# Altium integrated library ind-WE-LHMI (rev21a).IntLib: 164 symbols (part 3 of 3)
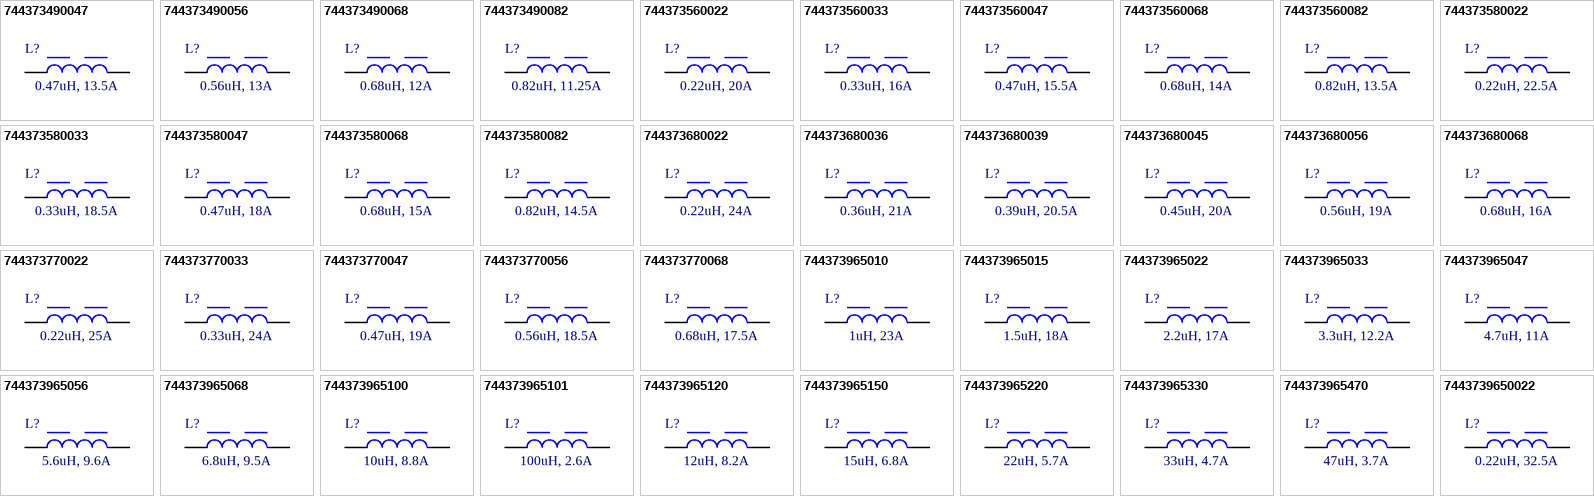
[diagram p6: symbols 744373490047 to 7443739650022]

## 744373580068
designator L?, comment 0.68uH, 15A
WE-LHMI SMT Power Inductor, size 8040, 0.68uH, 15A; Manufacturer: Wurth Elektronik; Manufacturer Part Number: 744373580068; Self Resonant Frequency: 45MHz; DC Resistance typ.: 2.75mOhm; DC Resistance max.: 3.22mOhm; Saturation Current @10%: 17.5A; Saturation Current @30%: 37.8A; ComponentLink1Description: Manufacturer; ComponentLink1URL: http://www.we-online.de; ComponentLink2Description: Datasheet; ComponentLink2URL: https://www.we-online.com/catalog/datasheet/744373580068.pdf; Mounting Technology: SMT; Operating Temperature: -40 to +125degC; Packaging: Tape and Reel; Inductance: 0.68uH; Rated Current: 15A; Size: 8040; Height: 4mm; Length: 9.2mm; Width: 8.5mm
footprint WE-LHMI_8040
pins: 1, 2

## 744373580082
designator L?, comment 0.82uH, 14.5A
WE-LHMI SMT Power Inductor, size 8040, 0.82uH, 14.5A; Manufacturer: Wurth Elektronik; Manufacturer Part Number: 744373580082; Self Resonant Frequency: 51MHz; DC Resistance typ.: 2.95mOhm; DC Resistance max.: 3.88mOhm; Saturation Current @10%: 19.7A; Saturation Current @30%: 41.6A; ComponentLink1Description: Manufacturer; ComponentLink1URL: http://www.we-online.de; ComponentLink2Description: Datasheet; ComponentLink2URL: https://www.we-online.com/catalog/datasheet/744373580082.pdf; Mounting Technology: SMT; Operating Temperature: -40 to +125degC; Packaging: Tape and Reel; Inductance: 0.82uH; Rated Current: 14.5A; Size: 8040; Height: 4mm; Length: 9.2mm; Width: 8.5mm
footprint WE-LHMI_8040
pins: 1, 2

## 744373680022
designator L?, comment 0.22uH, 24A
WE-LHMI SMT Power Inductor, size 1040, 0.22uH, 24A; Manufacturer: Wurth Elektronik; Manufacturer Part Number: 744373680022; Self Resonant Frequency: 153MHz; DC Resistance typ.: 0.8mOhm; DC Resistance max.: 1mOhm; Saturation Current @10%: 46A; Saturation Current @30%: 94.2A; ComponentLink1Description: Manufacturer; ComponentLink1URL: http://www.we-online.de; ComponentLink2Description: Datasheet; ComponentLink2URL: https://www.we-online.com/catalog/datasheet/744373680022.pdf; Mounting Technology: SMT; Operating Temperature: -40 to +125degC; Packaging: Tape and Reel; Inductance: 0.22uH; Rated Current: 24A; Size: 1040; Height: 3.8mm; Length: 10mm; Width: 10mm
footprint WE-LHMI_1040
pins: 1, 2

## 744373680036
designator L?, comment 0.36uH, 21A
WE-LHMI SMT Power Inductor, size 1040, 0.36uH, 21A; Manufacturer: Wurth Elektronik; Manufacturer Part Number: 744373680036; Self Resonant Frequency: 104MHz; DC Resistance typ.: 1.05mOhm; DC Resistance max.: 1.2mOhm; Saturation Current @10%: 44.5A; Saturation Current @30%: 79.4A; ComponentLink1Description: Manufacturer; ComponentLink1URL: http://www.we-online.de; ComponentLink2Description: Datasheet; ComponentLink2URL: https://www.we-online.com/catalog/datasheet/744373680036.pdf; Mounting Technology: SMT; Operating Temperature: -40 to +125degC; Packaging: Tape and Reel; Inductance: 0.36uH; Rated Current: 21A; Size: 1040; Height: 3.8mm; Length: 10mm; Width: 10mm
footprint WE-LHMI_1040
pins: 1, 2

## 744373680039
designator L?, comment 0.39uH, 20.5A
WE-LHMI SMT Power Inductor, size 1040, 0.39uH, 20.5A; Manufacturer: Wurth Elektronik; Manufacturer Part Number: 744373680039; Self Resonant Frequency: 101MHz; DC Resistance typ.: 1.1mOhm; DC Resistance max.: 1.3mOhm; Saturation Current @10%: 43A; Saturation Current @30%: 77.5A; ComponentLink1Description: Manufacturer; ComponentLink1URL: http://www.we-online.de; ComponentLink2Description: Datasheet; ComponentLink2URL: https://www.we-online.com/catalog/datasheet/744373680039.pdf; Mounting Technology: SMT; Operating Temperature: -40 to +125degC; Packaging: Tape and Reel; Inductance: 0.39uH; Rated Current: 20.5A; Size: 1040; Height: 3.8mm; Length: 10mm; Width: 10mm
footprint WE-LHMI_1040
pins: 1, 2

## 744373680045
designator L?, comment 0.45uH, 20A
WE-LHMI SMT Power Inductor, size 1040, 0.45uH, 20A; Manufacturer: Wurth Elektronik; Manufacturer Part Number: 744373680045; Self Resonant Frequency: 82MHz; DC Resistance typ.: 1.3mOhm; DC Resistance max.: 1.5mOhm; Saturation Current @10%: 34.9A; Saturation Current @30%: 64.5A; ComponentLink1Description: Manufacturer; ComponentLink1URL: http://www.we-online.de; ComponentLink2Description: Datasheet; ComponentLink2URL: https://www.we-online.com/catalog/datasheet/744373680045.pdf; Mounting Technology: SMT; Operating Temperature: -40 to +125degC; Packaging: Tape and Reel; Inductance: 0.45uH; Rated Current: 20A; Size: 1040; Height: 3.8mm; Length: 10mm; Width: 10mm
footprint WE-LHMI_1040
pins: 1, 2

## 744373680056
designator L?, comment 0.56uH, 19A
WE-LHMI SMT Power Inductor, size 1040, 0.56uH, 19A; Manufacturer: Wurth Elektronik; Manufacturer Part Number: 744373680056; Self Resonant Frequency: 70MHz; DC Resistance typ.: 1.6mOhm; DC Resistance max.: 1.8mOhm; Saturation Current @10%: 31.7A; Saturation Current @30%: 60.9A; ComponentLink1Description: Manufacturer; ComponentLink1URL: http://www.we-online.de; ComponentLink2Description: Datasheet; ComponentLink2URL: https://www.we-online.com/catalog/datasheet/744373680056.pdf; Mounting Technology: SMT; Operating Temperature: -40 to +125degC; Packaging: Tape and Reel; Inductance: 0.56uH; Rated Current: 19A; Size: 1040; Height: 3.8mm; Length: 10mm; Width: 10mm
footprint WE-LHMI_1040
pins: 1, 2

## 744373680068
designator L?, comment 0.68uH, 16A
WE-LHMI SMT Power Inductor, size 1040, 0.68uH, 16A; Manufacturer: Wurth Elektronik; Manufacturer Part Number: 744373680068; Self Resonant Frequency: 53MHz; DC Resistance typ.: 2.4mOhm; DC Resistance max.: 2.7mOhm; Saturation Current @10%: 30.6A; Saturation Current @30%: 58.3A; ComponentLink1Description: Manufacturer; ComponentLink1URL: http://www.we-online.de; ComponentLink2Description: Datasheet; ComponentLink2URL: https://www.we-online.com/catalog/datasheet/744373680068.pdf; Mounting Technology: SMT; Operating Temperature: -40 to +125degC; Packaging: Tape and Reel; Inductance: 0.68uH; Rated Current: 16A; Size: 1040; Height: 3.8mm; Length: 10mm; Width: 10mm
footprint WE-LHMI_1040
pins: 1, 2

## 744373770022
designator L?, comment 0.22uH, 25A
WE-LHMI SMT Power Inductor, size 1335, 0.22uH, 25A; Manufacturer: Wurth Elektronik; Manufacturer Part Number: 744373770022; Self Resonant Frequency: 130MHz; DC Resistance typ.: 0.75mOhm; DC Resistance max.: 0.9mOhm; Saturation Current @10%: 23.9A; Saturation Current @30%: 57.4A; ComponentLink1Description: Manufacturer; ComponentLink1URL: http://www.we-online.de; ComponentLink2Description: Datasheet; ComponentLink2URL: https://www.we-online.com/catalog/datasheet/744373770022.pdf; Mounting Technology: SMT; Operating Temperature: -40 to +125degC; Packaging: Tape and Reel; Inductance: 0.22uH; Rated Current: 25A; Size: 1335; Height: 3.3mm; Length: 12.6mm; Width: 12.6mm
footprint WE-LHMI_1335
pins: 1, 2

## 744373770033
designator L?, comment 0.33uH, 24A
WE-LHMI SMT Power Inductor, size 1335, 0.33uH, 24A; Manufacturer: Wurth Elektronik; Manufacturer Part Number: 744373770033; Self Resonant Frequency: 84MHz; DC Resistance typ.: 0.88mOhm; DC Resistance max.: 1.05mOhm; Saturation Current @10%: 23.9A; Saturation Current @30%: 65.5A; ComponentLink1Description: Manufacturer; ComponentLink1URL: http://www.we-online.de; ComponentLink2Description: Datasheet; ComponentLink2URL: https://www.we-online.com/catalog/datasheet/744373770033.pdf; Mounting Technology: SMT; Operating Temperature: -40 to +125degC; Packaging: Tape and Reel; Inductance: 0.33uH; Rated Current: 24A; Size: 1335; Height: 3.3mm; Length: 12.6mm; Width: 12.6mm
footprint WE-LHMI_1335
pins: 1, 2

## 744373770047
designator L?, comment 0.47uH, 19A
WE-LHMI SMT Power Inductor, size 1335, 0.47uH, 19A; Manufacturer: Wurth Elektronik; Manufacturer Part Number: 744373770047; Self Resonant Frequency: 77MHz; DC Resistance typ.: 1.32mOhm; DC Resistance max.: 1.6mOhm; Saturation Current @10%: 17.2A; Saturation Current @30%: 40.2A; ComponentLink1Description: Manufacturer; ComponentLink1URL: http://www.we-online.de; ComponentLink2Description: Datasheet; ComponentLink2URL: https://www.we-online.com/catalog/datasheet/744373770047.pdf; Mounting Technology: SMT; Operating Temperature: -40 to +125degC; Packaging: Tape and Reel; Inductance: 0.47uH; Rated Current: 19A; Size: 1335; Height: 3.3mm; Length: 12.6mm; Width: 12.6mm
footprint WE-LHMI_1335
pins: 1, 2

## 744373770056
designator L?, comment 0.56uH, 18.5A
WE-LHMI SMT Power Inductor, size 1335, 0.56uH, 18.5A; Manufacturer: Wurth Elektronik; Manufacturer Part Number: 744373770056; Self Resonant Frequency: 59MHz; DC Resistance typ.: 1.4mOhm; DC Resistance max.: 1.7mOhm; Saturation Current @10%: 16.8A; Saturation Current @30%: 42.8A; ComponentLink1Description: Manufacturer; ComponentLink1URL: http://www.we-online.de; ComponentLink2Description: Datasheet; ComponentLink2URL: https://www.we-online.com/catalog/datasheet/744373770056.pdf; Mounting Technology: SMT; Operating Temperature: -40 to +125degC; Packaging: Tape and Reel; Inductance: 0.56uH; Rated Current: 18.5A; Size: 1335; Height: 3.3mm; Length: 12.6mm; Width: 12.6mm
footprint WE-LHMI_1335
pins: 1, 2

## 744373770068
designator L?, comment 0.68uH, 17.5A
WE-LHMI SMT Power Inductor, size 1335, 0.68uH, 17.5A; Manufacturer: Wurth Elektronik; Manufacturer Part Number: 744373770068; Self Resonant Frequency: 51MHz; DC Resistance typ.: 1.8mOhm; DC Resistance max.: 2.2mOhm; Saturation Current @10%: 15.7A; Saturation Current @30%: 42.5A; ComponentLink1Description: Manufacturer; ComponentLink1URL: http://www.we-online.de; ComponentLink2Description: Datasheet; ComponentLink2URL: https://www.we-online.com/catalog/datasheet/744373770068.pdf; Mounting Technology: SMT; Operating Temperature: -40 to +125degC; Packaging: Tape and Reel; Inductance: 0.68uH; Rated Current: 17.5A; Size: 1335; Height: 3.3mm; Length: 12.6mm; Width: 12.6mm
footprint WE-LHMI_1335
pins: 1, 2

## 744373965010
designator L?, comment 1uH, 23A
WE-LHMI SMT Power Inductor, size 1365, 1uH, 23A; Manufacturer: Wurth Elektronik; Manufacturer Part Number: 744373965010; Self Resonant Frequency: 43.5MHz; DC Resistance typ.: 1.9mOhm; DC Resistance max.: 2.3mOhm; Saturation Current @10%: 32.7A; Saturation Current @30%: 59.9A; ComponentLink1Description: Manufacturer; ComponentLink1URL: http://www.we-online.de; ComponentLink2Description: Datasheet; ComponentLink2URL: https://www.we-online.com/catalog/datasheet/744373965010.pdf; Mounting Technology: SMT; Operating Temperature: -40 to +125degC; Packaging: Tape and Reel; Inductance: 1uH; Rated Current: 23A; Size: 1365; Height: 6.2mm; Length: 12.5mm; Width: 12.5mm
footprint WE-LHMI_1365
pins: 1, 2

## 744373965015
designator L?, comment 1.5uH, 18A
WE-LHMI SMT Power Inductor, size 1365, 1.5uH, 18A; Manufacturer: Wurth Elektronik; Manufacturer Part Number: 744373965015; Self Resonant Frequency: 29.5MHz; DC Resistance typ.: 2.3mOhm; DC Resistance max.: 3mOhm; Saturation Current @10%: 28.9A; Saturation Current @30%: 55.2A; ComponentLink1Description: Manufacturer; ComponentLink1URL: http://www.we-online.de; ComponentLink2Description: Datasheet; ComponentLink2URL: https://www.we-online.com/catalog/datasheet/744373965015.pdf; Mounting Technology: SMT; Operating Temperature: -40 to +125degC; Packaging: Tape and Reel; Inductance: 1.5uH; Rated Current: 18A; Size: 1365; Height: 6.2mm; Length: 12.5mm; Width: 12.5mm
footprint WE-LHMI_1365
pins: 1, 2

## 744373965022
designator L?, comment 2.2uH, 17A
WE-LHMI SMT Power Inductor, size 1365, 2.2uH, 17A; Manufacturer: Wurth Elektronik; Manufacturer Part Number: 744373965022; Self Resonant Frequency: 21.6MHz; DC Resistance typ.: 3.2mOhm; DC Resistance max.: 4.2mOhm; Saturation Current @10%: 20.7A; Saturation Current @30%: 41.1A; ComponentLink1Description: Manufacturer; ComponentLink1URL: http://www.we-online.de; ComponentLink2Description: Datasheet; ComponentLink2URL: https://www.we-online.com/catalog/datasheet/744373965022.pdf; Mounting Technology: SMT; Operating Temperature: -40 to +125degC; Packaging: Tape and Reel; Inductance: 2.2uH; Rated Current: 17A; Size: 1365; Height: 6.2mm; Length: 12.5mm; Width: 12.5mm
footprint WE-LHMI_1365
pins: 1, 2

## 744373965033
designator L?, comment 3.3uH, 12.2A
WE-LHMI SMT Power Inductor, size 1365, 3.3uH, 12.2A; Manufacturer: Wurth Elektronik; Manufacturer Part Number: 744373965033; Self Resonant Frequency: 20.3MHz; DC Resistance typ.: 5.7mOhm; DC Resistance max.: 6.8mOhm; Saturation Current @10%: 20.3A; Saturation Current @30%: 41.5A; ComponentLink1Description: Manufacturer; ComponentLink1URL: http://www.we-online.de; ComponentLink2Description: Datasheet; ComponentLink2URL: https://www.we-online.com/catalog/datasheet/744373965033.pdf; Mounting Technology: SMT; Operating Temperature: -40 to +125degC; Packaging: Tape and Reel; Inductance: 3.3uH; Rated Current: 12.2A; Size: 1365; Height: 6.2mm; Length: 12.5mm; Width: 12.5mm
footprint WE-LHMI_1365
pins: 1, 2

## 744373965047
designator L?, comment 4.7uH, 11A
WE-LHMI SMT Power Inductor, size 1365, 4.7uH, 11A; Manufacturer: Wurth Elektronik; Manufacturer Part Number: 744373965047; Self Resonant Frequency: 13.9MHz; DC Resistance typ.: 6.5mOhm; DC Resistance max.: 8.4mOhm; Saturation Current @10%: 18.4A; Saturation Current @30%: 35.8A; ComponentLink1Description: Manufacturer; ComponentLink1URL: http://www.we-online.de; ComponentLink2Description: Datasheet; ComponentLink2URL: https://www.we-online.com/catalog/datasheet/744373965047.pdf; Mounting Technology: SMT; Operating Temperature: -40 to +125degC; Packaging: Tape and Reel; Inductance: 4.7uH; Rated Current: 11A; Size: 1365; Height: 6.2mm; Length: 12.5mm; Width: 12.5mm
footprint WE-LHMI_1365
pins: 1, 2

## 744373965056
designator L?, comment 5.6uH, 9.6A
WE-LHMI SMT Power Inductor, size 1365, 5.6uH, 9.6A; Manufacturer: Wurth Elektronik; Manufacturer Part Number: 744373965056; Self Resonant Frequency: 13.7MHz; DC Resistance typ.: 8.3mOhm; DC Resistance max.: 10mOhm; Saturation Current @10%: 18.3A; Saturation Current @30%: 33A; ComponentLink1Description: Manufacturer; ComponentLink1URL: http://www.we-online.de; ComponentLink2Description: Datasheet; ComponentLink2URL: https://www.we-online.com/catalog/datasheet/744373965056.pdf; Mounting Technology: SMT; Operating Temperature: -40 to +125degC; Packaging: Tape and Reel; Inductance: 5.6uH; Rated Current: 9.6A; Size: 1365; Height: 6.2mm; Length: 12.5mm; Width: 12.5mm
footprint WE-LHMI_1365
pins: 1, 2

## 744373965068
designator L?, comment 6.8uH, 9.5A
WE-LHMI SMT Power Inductor, size 1365, 6.8uH, 9.5A; Manufacturer: Wurth Elektronik; Manufacturer Part Number: 744373965068; Self Resonant Frequency: 11.6MHz; DC Resistance typ.: 9.2mOhm; DC Resistance max.: 11.6mOhm; Saturation Current @10%: 15.8A; Saturation Current @30%: 28.9A; ComponentLink1Description: Manufacturer; ComponentLink1URL: http://www.we-online.de; ComponentLink2Description: Datasheet; ComponentLink2URL: https://www.we-online.com/catalog/datasheet/744373965068.pdf; Mounting Technology: SMT; Operating Temperature: -40 to +125degC; Packaging: Tape and Reel; Inductance: 6.8uH; Rated Current: 9.5A; Size: 1365; Height: 6.2mm; Length: 12.5mm; Width: 12.5mm
footprint WE-LHMI_1365
pins: 1, 2

## 744373965100
designator L?, comment 10uH, 8.8A
WE-LHMI SMT Power Inductor, size 1365, 10uH, 8.8A; Manufacturer: Wurth Elektronik; Manufacturer Part Number: 744373965100; Self Resonant Frequency: 8MHz; DC Resistance typ.: 10.6mOhm; DC Resistance max.: 16.5mOhm; Saturation Current @10%: 13.2A; Saturation Current @30%: 23.9A; ComponentLink1Description: Manufacturer; ComponentLink1URL: http://www.we-online.de; ComponentLink2Description: Datasheet; ComponentLink2URL: https://www.we-online.com/catalog/datasheet/744373965100.pdf; Mounting Technology: SMT; Operating Temperature: -40 to +125degC; Packaging: Tape and Reel; Inductance: 10uH; Rated Current: 8.8A; Size: 1365; Height: 6.2mm; Length: 12.5mm; Width: 12.5mm
footprint WE-LHMI_1365
pins: 1, 2

## 744373965101
designator L?, comment 100uH, 2.6A
WE-LHMI SMT Power Inductor, size 1365, 100uH, 2.6A; Manufacturer: Wurth Elektronik; Manufacturer Part Number: 744373965101; Self Resonant Frequency: 2.4MHz; DC Resistance typ.: 140.8mOhm; DC Resistance max.: 165mOhm; Saturation Current @10%: 3.45A; Saturation Current @30%: 6.8A; ComponentLink1Description: Manufacturer; ComponentLink1URL: http://www.we-online.de; ComponentLink2Description: Datasheet; ComponentLink2URL: https://www.we-online.com/catalog/datasheet/744373965101.pdf; Mounting Technology: SMT; Operating Temperature: -40 to +125degC; Packaging: Tape and Reel; Inductance: 100uH; Rated Current: 2.6A; Size: 1365; Height: 6.2mm; Length: 12.5mm; Width: 12.5mm
footprint WE-LHMI_1365
pins: 1, 2

## 744373965120
designator L?, comment 12uH, 8.2A
WE-LHMI SMT Power Inductor, size 1365, 12uH, 8.2A; Manufacturer: Wurth Elektronik; Manufacturer Part Number: 744373965120; Self Resonant Frequency: 7.6MHz; DC Resistance typ.: 17.8mOhm; DC Resistance max.: 20mOhm; Saturation Current @10%: 12.9A; Saturation Current @30%: 26.6A; ComponentLink1Description: Manufacturer; ComponentLink1URL: http://www.we-online.de; ComponentLink2Description: Datasheet; ComponentLink2URL: https://www.we-online.com/catalog/datasheet/744373965120.pdf; Mounting Technology: SMT; Operating Temperature: -40 to +125degC; Packaging: Tape and Reel; Inductance: 12uH; Rated Current: 8.2A; Size: 1365; Height: 6.2mm; Length: 12.5mm; Width: 12.5mm
footprint WE-LHMI_1365
pins: 1, 2

## 744373965150
designator L?, comment 15uH, 6.8A
WE-LHMI SMT Power Inductor, size 1365, 15uH, 6.8A; Manufacturer: Wurth Elektronik; Manufacturer Part Number: 744373965150; Self Resonant Frequency: 7.5MHz; DC Resistance typ.: 24.4mOhm; DC Resistance max.: 28mOhm; Saturation Current @10%: 10.2A; Saturation Current @30%: 18.5A; ComponentLink1Description: Manufacturer; ComponentLink1URL: http://www.we-online.de; ComponentLink2Description: Datasheet; ComponentLink2URL: https://www.we-online.com/catalog/datasheet/744373965150.pdf; Mounting Technology: SMT; Operating Temperature: -40 to +125degC; Packaging: Tape and Reel; Inductance: 15uH; Rated Current: 6.8A; Size: 1365; Height: 6.2mm; Length: 12.5mm; Width: 12.5mm
footprint WE-LHMI_1365
pins: 1, 2

## 744373965220
designator L?, comment 22uH, 5.7A
WE-LHMI SMT Power Inductor, size 1365, 22uH, 5.7A; Manufacturer: Wurth Elektronik; Manufacturer Part Number: 744373965220; Self Resonant Frequency: 5.4MHz; DC Resistance typ.: 34.5mOhm; DC Resistance max.: 37mOhm; Saturation Current @10%: 6.7A; Saturation Current @30%: 13.9A; ComponentLink1Description: Manufacturer; ComponentLink1URL: http://www.we-online.de; ComponentLink2Description: Datasheet; ComponentLink2URL: https://www.we-online.com/catalog/datasheet/744373965220.pdf; Mounting Technology: SMT; Operating Temperature: -40 to +125degC; Packaging: Tape and Reel; Inductance: 22uH; Rated Current: 5.7A; Size: 1365; Height: 6.2mm; Length: 12.5mm; Width: 12.5mm
footprint WE-LHMI_1365
pins: 1, 2

## 744373965330
designator L?, comment 33uH, 4.7A
WE-LHMI SMT Power Inductor, size 1365, 33uH, 4.7A; Manufacturer: Wurth Elektronik; Manufacturer Part Number: 744373965330; Self Resonant Frequency: 4.4MHz; DC Resistance typ.: 48.7mOhm; DC Resistance max.: 58mOhm; Saturation Current @10%: 6.3A; Saturation Current @30%: 13.2A; ComponentLink1Description: Manufacturer; ComponentLink1URL: http://www.we-online.de; ComponentLink2Description: Datasheet; ComponentLink2URL: https://www.we-online.com/catalog/datasheet/744373965330.pdf; Mounting Technology: SMT; Operating Temperature: -40 to +125degC; Packaging: Tape and Reel; Inductance: 33uH; Rated Current: 4.7A; Size: 1365; Height: 6.2mm; Length: 12.5mm; Width: 12.5mm
footprint WE-LHMI_1365
pins: 1, 2

## 744373965470
designator L?, comment 47uH, 3.7A
WE-LHMI SMT Power Inductor, size 1365, 47uH, 3.7A; Manufacturer: Wurth Elektronik; Manufacturer Part Number: 744373965470; Self Resonant Frequency: 3.8MHz; DC Resistance typ.: 74.6mOhm; DC Resistance max.: 90mOhm; Saturation Current @10%: 6.15A; Saturation Current @30%: 13.1A; ComponentLink1Description: Manufacturer; ComponentLink1URL: http://www.we-online.de; ComponentLink2Description: Datasheet; ComponentLink2URL: https://www.we-online.com/catalog/datasheet/744373965470.pdf; Mounting Technology: SMT; Operating Temperature: -40 to +125degC; Packaging: Tape and Reel; Inductance: 47uH; Rated Current: 3.7A; Size: 1365; Height: 6.2mm; Length: 12.5mm; Width: 12.5mm
footprint WE-LHMI_1365
pins: 1, 2

## 7443739650022
designator L?, comment 0.22uH, 32.5A
WE-LHMI SMT Power Inductor, size 1365, 0.22uH, 32.5A; Manufacturer: Wurth Elektronik; Manufacturer Part Number: 7443739650022; Self Resonant Frequency: 112.3MHz; DC Resistance typ.: 0.51mOhm; DC Resistance max.: 0.6mOhm; Saturation Current @10%: 81.5A; Saturation Current @30%: 120A; ComponentLink1Description: Manufacturer; ComponentLink1URL: http://www.we-online.de; ComponentLink2Description: Datasheet; ComponentLink2URL: https://www.we-online.com/catalog/datasheet/7443739650022.pdf; Mounting Technology: SMT; Operating Temperature: -40 to +125degC; Packaging: Tape and Reel; Inductance: 0.22uH; Rated Current: 32.5A; Size: 1365; Height: 6.2mm; Length: 12.5mm; Width: 12.5mm
footprint WE-LHMI_1365
pins: 1, 2

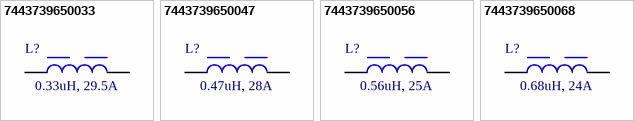
[diagram p4: symbols 7443739650033 to 7443739650068]

## 7443739650033
designator L?, comment 0.33uH, 29.5A
WE-LHMI SMT Power Inductor, size 1365, 0.33uH, 29.5A; Manufacturer: Wurth Elektronik; Manufacturer Part Number: 7443739650033; Self Resonant Frequency: 74.7MHz; DC Resistance typ.: 0.64mOhm; DC Resistance max.: 0.8mOhm; Saturation Current @10%: 57.5A; Saturation Current @30%: 108.6A; ComponentLink1Description: Manufacturer; ComponentLink1URL: http://www.we-online.de; ComponentLink2Description: Datasheet; ComponentLink2URL: https://www.we-online.com/catalog/datasheet/7443739650033.pdf; Mounting Technology: SMT; Operating Temperature: -40 to +125degC; Packaging: Tape and Reel; Inductance: 0.33uH; Rated Current: 29.5A; Size: 1365; Height: 6.2mm; Length: 12.5mm; Width: 12.5mm
footprint WE-LHMI_1365
pins: 1, 2

## 7443739650047
designator L?, comment 0.47uH, 28A
WE-LHMI SMT Power Inductor, size 1365, 0.47uH, 28A; Manufacturer: Wurth Elektronik; Manufacturer Part Number: 7443739650047; Self Resonant Frequency: 60MHz; DC Resistance typ.: 0.92mOhm; DC Resistance max.: 1.2mOhm; Saturation Current @10%: 49.7A; Saturation Current @30%: 99.4A; ComponentLink1Description: Manufacturer; ComponentLink1URL: http://www.we-online.de; ComponentLink2Description: Datasheet; ComponentLink2URL: https://www.we-online.com/catalog/datasheet/7443739650047.pdf; Mounting Technology: SMT; Operating Temperature: -40 to +125degC; Packaging: Tape and Reel; Inductance: 0.47uH; Rated Current: 28A; Size: 1365; Height: 6.2mm; Length: 12.5mm; Width: 12.5mm
footprint WE-LHMI_1365
pins: 1, 2

## 7443739650056
designator L?, comment 0.56uH, 25A
WE-LHMI SMT Power Inductor, size 1365, 0.56uH, 25A; Manufacturer: Wurth Elektronik; Manufacturer Part Number: 7443739650056; Self Resonant Frequency: 51.7MHz; DC Resistance typ.: 1.11mOhm; DC Resistance max.: 1.2mOhm; Saturation Current @10%: 36.3A; Saturation Current @30%: 68.3A; ComponentLink1Description: Manufacturer; ComponentLink1URL: http://www.we-online.de; ComponentLink2Description: Datasheet; ComponentLink2URL: https://www.we-online.com/catalog/datasheet/7443739650056.pdf; Mounting Technology: SMT; Operating Temperature: -40 to +125degC; Packaging: Tape and Reel; Inductance: 0.56uH; Rated Current: 25A; Size: 1365; Height: 6.2mm; Length: 12.5mm; Width: 12.5mm
footprint WE-LHMI_1365
pins: 1, 2

## 7443739650068
designator L?, comment 0.68uH, 24A
WE-LHMI SMT Power Inductor, size 1365, 0.68uH, 24A; Manufacturer: Wurth Elektronik; Manufacturer Part Number: 7443739650068; Self Resonant Frequency: 51.1MHz; DC Resistance typ.: 1.2mOhm; DC Resistance max.: 1.5mOhm; Saturation Current @10%: 35.7A; Saturation Current @30%: 67.4A; ComponentLink1Description: Manufacturer; ComponentLink1URL: http://www.we-online.de; ComponentLink2Description: Datasheet; ComponentLink2URL: https://www.we-online.com/catalog/datasheet/7443739650068.pdf; Mounting Technology: SMT; Operating Temperature: -40 to +125degC; Packaging: Tape and Reel; Inductance: 0.68uH; Rated Current: 24A; Size: 1365; Height: 6.2mm; Length: 12.5mm; Width: 12.5mm
footprint WE-LHMI_1365
pins: 1, 2